# Altium schematic symbol library cmc_0.Schlib: 1 symbol
Pins are listed as number, name and electrical type; pins without a type are passive.

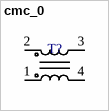
[diagram p0: symbol cmc_0]

## cmc_0
designator T?  (value not drawn)
Common Mode Choke
pins: 1, 2, 3, 4